# EAGLE library part LT1028 (library my-linear)
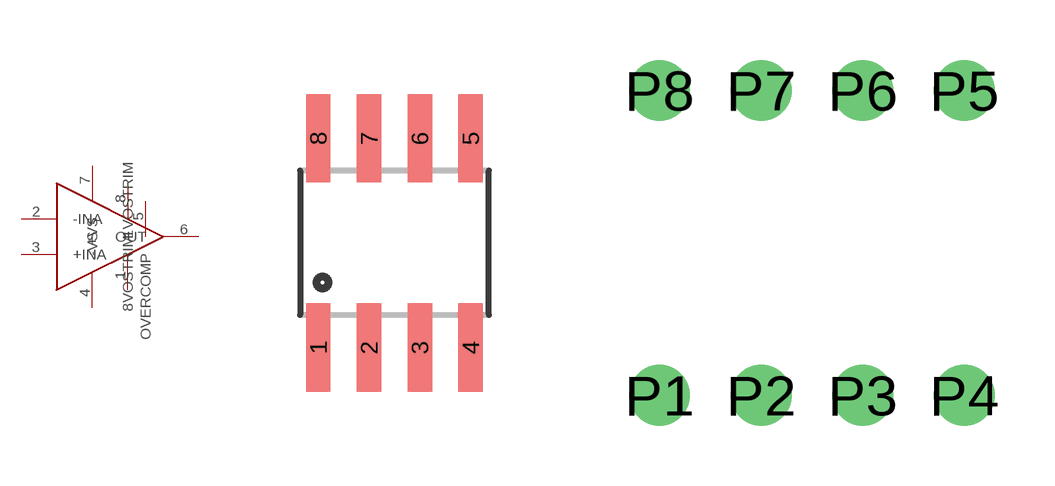
[diagram p2: symbol with the pads of 8-SOIC; footprints 8-SOIC, 8PIN_SURF]

Designator prefix -

## LT10288SOIC  [8-SOIC]
1  1VOSTRIM
2  -INA
3  +INA
4  -VS
5  OVERCOMP
6  OUT
7  +VS
8  8VOSTRIM

## LT1028SURF-8PDIP  [8PIN_SURF]
P1  1VOSTRIM
P2  -INA
P3  +INA
P4  -VS
P5  OVERCOMP
P6  OUT
P7  +VS
P8  8VOSTRIM

## Footprint 8-SOIC (pad centres in mm)
smd 0.61 x 2.21: 1 -1.905,-2.616; 2 -0.635,-2.616; 3 0.635,-2.616; 4 1.905,-2.616; 5 1.905,2.616; 6 0.635,2.616; 7 -0.635,2.616; 8 -1.905,2.616

## Footprint 8PIN_SURF (pad centres in mm)
component package link: http://www.digikey.com/product-detail/en/214-99-308-01-670800/ED2128-ND/58679 Top view: http://media.digikey.com/pdf/Catalog%20Drawings/ Connectors/SERIES%20214%20PINOUT.jpg Side view: http://media.digikey.com/pdf/Catalog%20Drawings/Connectors/SERIES%20214%20DIM-v1.jpg
drill 0.025 pad 1.524: P1 -3.81,-3.81; P2 -1.27,-3.81; P3 1.27,-3.81; P4 3.81,-3.81; P5 3.81,3.81; P6 1.27,3.81; P7 -1.27,3.81; P8 -3.81,3.81